# Altium integrated library BSS138NH6433XTMA1.IntLib: 1 symbol
Pins are listed as number, name and electrical type; pins without a type are passive.

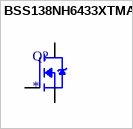
[diagram p0: symbol BSS138NH6433XTMA1]

## BSS138NH6433XTMA1
designator Q?
footprint SOT95P240X111-3N
pins: 1 G, 2 S, 3 D